# Altium footprint library diode.PcbLib: 8 footprints
Each footprint in its own frame and in the unit in brackets; x right, y up, seen from the top. Pads: shape width x height; smd on the part's side, far side on the other; paste and mask are expansions set on the pad; w line width, h text height; cw(c..) or ccw(c..) is an arc to the next point about the centre after c.
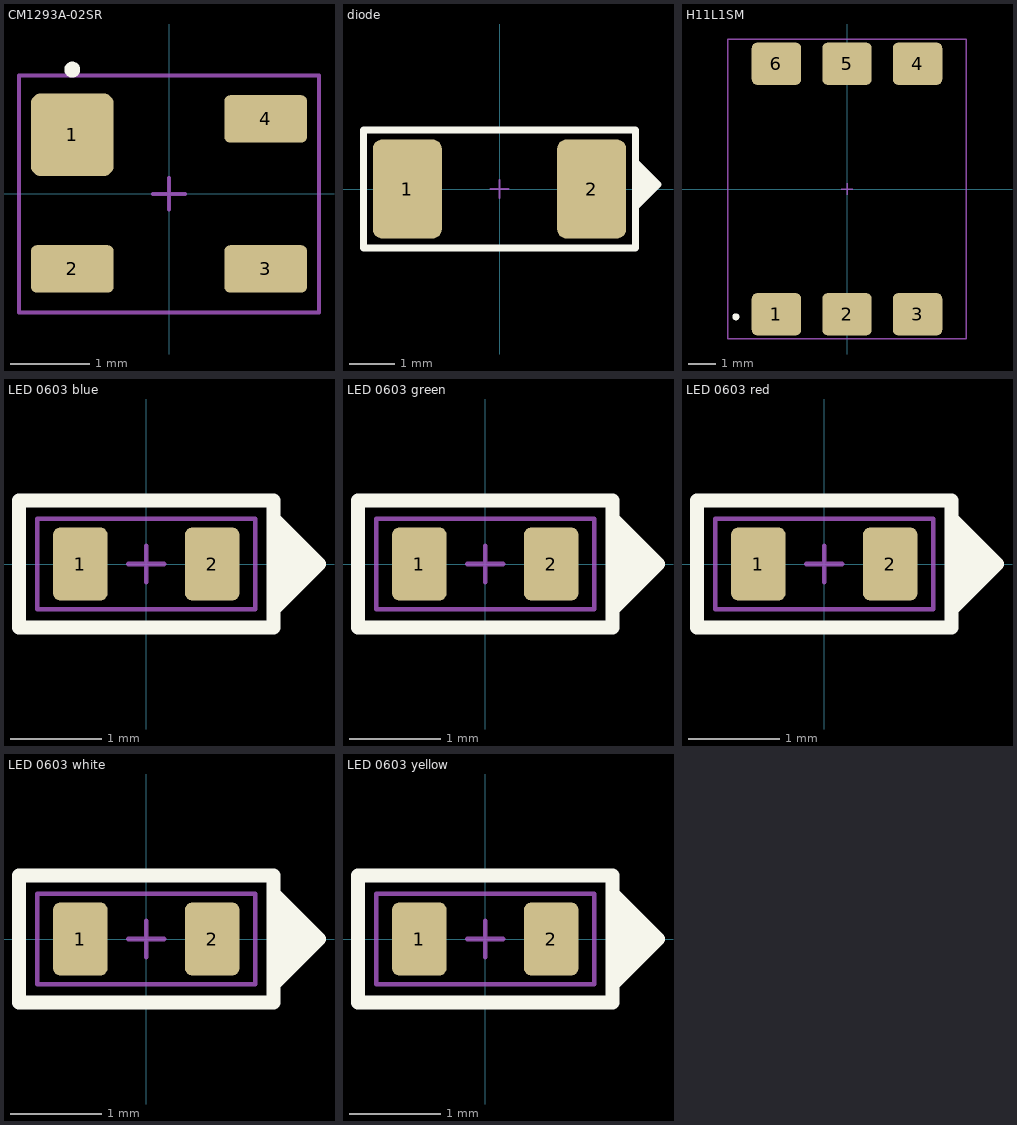
[diagram p0: the footprints below, top view; thin cyan lines are the x and y axes]

## CM1293A-02SR [mm] "SOT143, 4-Leads, Body 2.93x2.64mm, Pitch 1.90mm, IPC Medium Density"
height 1.12
pads (4):
  rrect25% 1.05x1.05 smd: 1(-1.225,0.75)
  rrect25% 1.05x0.6 smd: 2(-1.225,-0.95) 3(1.225,-0.95) 4(1.225,0.95)
Top Overlay:
  circle w0.1: c-1.225,1.575 r0.05
Top Assembly:
  lines w0.05: -1.9,-1.5 1.9,-1.5 1.9,1.5 -1.9,1.5 -1.9,-1.5
Top Placement:
  lines w0.05: -0.2,0 0.2,0 ; 0,-0.2 0,0.2 ; -1.9,-1.5 -1.9,1.5 1.9,1.5 1.9,-1.5 -1.9,-1.5
3D body "SOT190P264X112-4N.step": height 1.12, standoff 0.01, extent -1.316,-1.525 1.316,1.525

## diode [mm]
pads (2):
  rrect25% 1.52x2.18 smd: 1(-2.035,0) 2(2.035,0)
Top Overlay:
  region: 3,0.6 3,-0.4 3.5,0.1
  lines w0.153: -3,-1.3 -3,1.3 3,1.3 3,-1.3 -3,-1.3
  lines w0.154: 3,-0.4 3.5,0.1 3,0.6
Top Placement:
  lines w0.05: -0.2,0 0.2,0 ; 0,-0.2 0,0.2
3D body "diode.step": height 2.24, standoff -0.01, extent -2.7,-1.756 2.7,1.8

## H11L1SM [mm]
pads (6):
  rrect25% 1.78x1.52 smd: 1(-2.54,-4.51) 2(0,-4.51) 3(2.54,-4.51) 4(2.54,4.51) 5(0,4.51) 6(-2.54,4.51)
Top Overlay:
  circle w0.154: c-4,-4.6 r0.05
Top Assembly:
  lines w0.05: -4.3,-5.4 4.3,-5.4 4.3,5.4 -4.3,5.4 -4.3,-5.4
Top Placement:
  lines w0.05: -0.2,0 0.2,0 ; 0,-0.2 0,0.2 ; -4.3,-5.4 -4.3,5.4 4.3,5.4 4.3,-5.4 -4.3,-5.4
3D body "H11L1SM.STEP": height 5.09, standoff 0.01, extent -4.255,-4.582 4.255,4.582

## LED 0603 blue [mm]
pads (2):
  rrect25% 0.6x0.8 smd: 1(-0.725,0) 2(0.725,0)
Top Overlay:
  region: 1.4,0.5 1.4,-0.5 1.9,0
  lines w0.153: -1.4,-0.7 1.4,-0.7 1.4,0.7 -1.4,0.7 -1.4,-0.7
  lines w0.154: 1.4,-0.5 1.9,0 1.4,0.5
Top Assembly:
  lines w0.05: -1.2,-0.5 -1.2,0.5 ; -1.2,-0.5 1.2,-0.5 ; -1.2,-0.5 -1.2,0.5 ; -1.2,-0.5 1.2,-0.5 ; -1.2,0.5 1.2,0.5 ; -1.2,0.5 1.2,0.5 ; 1.2,-0.5 1.2,0.5 ; 1.2,-0.5 1.2,0.5
Top Placement:
  lines w0.05: -0.2,0 0.2,0 ; 0,-0.2 0,0.2 ; -1.2,-0.5 1.2,-0.5 1.2,0.5 -1.2,0.5 -1.2,-0.5
3D body "User Library-LED_0603_B.STEP": height 0.6, standoff 0, extent -0.8,-0.4 0.8,0.4

## LED 0603 green [mm]
pads (2):
  rrect25% 0.6x0.8 smd: 1(-0.725,0) 2(0.725,0)
Top Overlay:
  region: 1.4,0.5 1.4,-0.5 1.9,0
  lines w0.153: -1.4,-0.7 -1.4,0.7 1.4,0.7 1.4,-0.7 -1.4,-0.7
  lines w0.154: 1.4,-0.5 1.9,0 1.4,0.5
Top Assembly:
  lines w0.05: -1.2,-0.5 1.2,-0.5 ; -1.2,-0.5 -1.2,0.5 ; -1.2,-0.5 1.2,-0.5 ; -1.2,-0.5 -1.2,0.5 ; -1.2,0.5 1.2,0.5 ; -1.2,0.5 1.2,0.5 ; 1.2,-0.5 1.2,0.5 ; 1.2,-0.5 1.2,0.5
Top Placement:
  lines w0.05: -0.2,0 0.2,0 ; 0,-0.2 0,0.2 ; -1.2,-0.5 -1.2,0.5 1.2,0.5 1.2,-0.5 -1.2,-0.5
3D body "User Library-LED_0603_G.STEP": height 0.6, standoff 0, extent -0.8,-0.4 0.8,0.4

## LED 0603 red [mm]
pads (2):
  rrect25% 0.6x0.8 smd: 1(-0.725,0) 2(0.725,0)
Top Overlay:
  region: 1.4,0.5 1.4,-0.5 1.9,0
  lines w0.153: -1.4,-0.7 -1.4,0.7 1.4,0.7 1.4,-0.7 -1.4,-0.7
  lines w0.154: 1.4,-0.5 1.9,0 1.4,0.5
Top Assembly:
  lines w0.05: -1.2,-0.5 1.2,-0.5 ; -1.2,-0.5 -1.2,0.5 ; -1.2,-0.5 -1.2,0.5 ; -1.2,-0.5 1.2,-0.5 ; -1.2,0.5 1.2,0.5 ; -1.2,0.5 1.2,0.5 ; 1.2,-0.5 1.2,0.5 ; 1.2,-0.5 1.2,0.5
Top Placement:
  lines w0.05: -0.2,0 0.2,0 ; 0,-0.2 0,0.2 ; -1.2,-0.5 -1.2,0.5 1.2,0.5 1.2,-0.5 -1.2,-0.5
3D body "User Library-LED_0603_R.STEP": height 0.6, standoff 0, extent -0.8,-0.4 0.8,0.4

## LED 0603 white [mm]
pads (2):
  rrect25% 0.6x0.8 smd: 1(-0.725,0) 2(0.725,0)
Top Overlay:
  region: 1.4,0.5 1.4,-0.5 1.9,0
  lines w0.153: -1.4,-0.7 1.4,-0.7 1.4,0.7 -1.4,0.7 -1.4,-0.7
  lines w0.154: 1.4,-0.5 1.9,0 1.4,0.5
Top Assembly:
  lines w0.05: -1.2,-0.5 -1.2,0.5 ; -1.2,-0.5 1.2,-0.5 ; -1.2,-0.5 -1.2,0.5 ; -1.2,-0.5 1.2,-0.5 ; -1.2,0.5 1.2,0.5 ; -1.2,0.5 1.2,0.5 ; 1.2,-0.5 1.2,0.5 ; 1.2,-0.5 1.2,0.5
Top Placement:
  lines w0.05: -0.2,0 0.2,0 ; 0,-0.2 0,0.2 ; -1.2,-0.5 1.2,-0.5 1.2,0.5 -1.2,0.5 -1.2,-0.5
3D body "User Library-LED_0603_WS.STEP": height 0.6, standoff 0, extent -0.8,-0.4 0.8,0.4

## LED 0603 yellow [mm]
pads (2):
  rrect25% 0.6x0.8 smd: 1(-0.725,0) 2(0.725,0)
Top Overlay:
  region: 1.4,0.5 1.4,-0.5 1.9,0
  lines w0.153: -1.4,-0.7 -1.4,0.7 1.4,0.7 1.4,-0.7 -1.4,-0.7
  lines w0.154: 1.4,-0.5 1.9,0 1.4,0.5
Top Assembly:
  lines w0.05: -1.2,-0.5 1.2,-0.5 ; -1.2,-0.5 -1.2,0.5 ; -1.2,-0.5 1.2,-0.5 ; -1.2,-0.5 -1.2,0.5 ; -1.2,0.5 1.2,0.5 ; -1.2,0.5 1.2,0.5 ; 1.2,-0.5 1.2,0.5 ; 1.2,-0.5 1.2,0.5
Top Placement:
  lines w0.05: -0.2,0 0.2,0 ; 0,-0.2 0,0.2 ; -1.2,-0.5 -1.2,0.5 1.2,0.5 1.2,-0.5 -1.2,-0.5
3D body "User Library-LED_0603_Y.STEP": height 0.6, standoff 0, extent -0.8,-0.4 0.8,0.4